# Altium footprint library 0.PCB1.PcbLib: 27 footprints (part 2 of 3)
Each footprint in its own frame and in the unit in brackets; x right, y up, seen from the top. Pads: shape width x height; smd on the part's side, far side on the other; paste and mask are expansions set on the pad; w line width, h text height; cw(c..) or ccw(c..) is an arc to the next point about the centre after c.
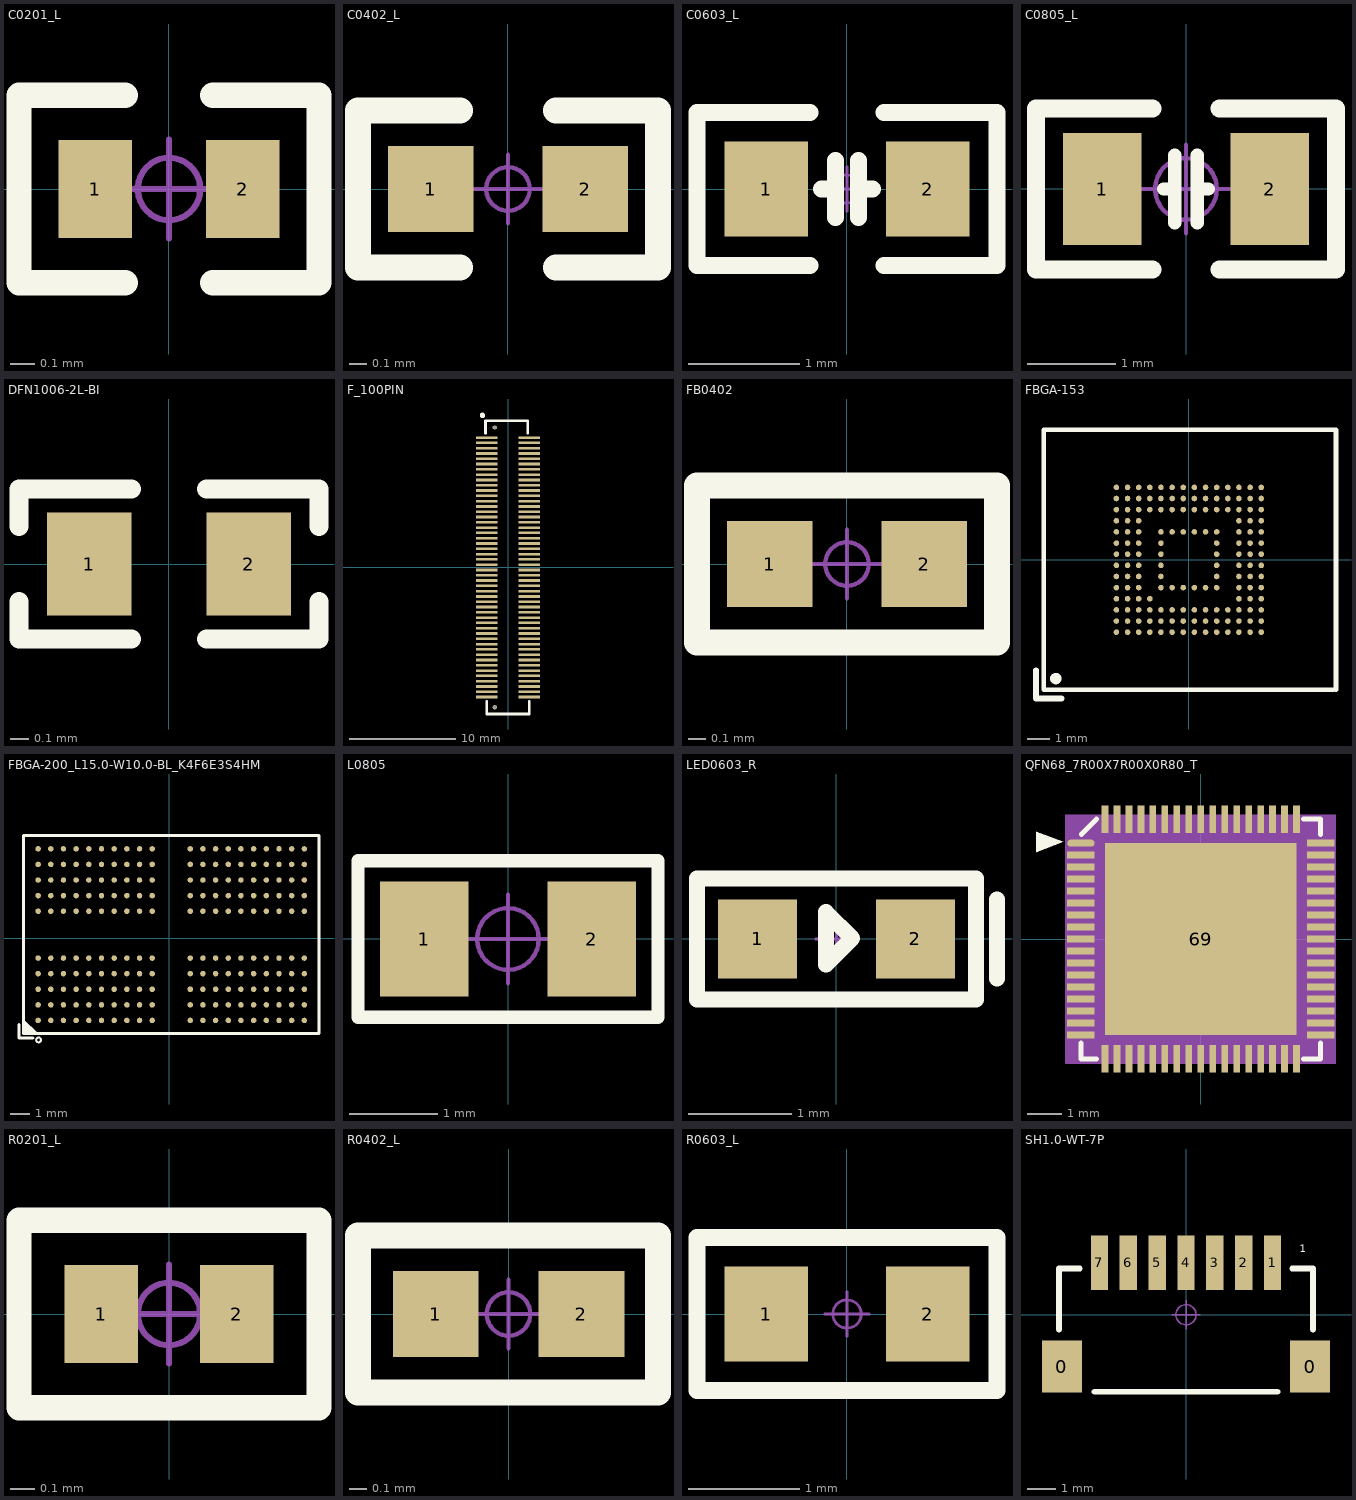
[diagram p1: the footprints below, top view; thin cyan lines are the x and y axes]

## C0201_L [mm]
pads (2):
  rect 0.3x0.4 smd: 1(-0.3,0) 2(0.3,0)
Top Overlay:
  lines w0.102: -0.178,-0.381 -0.61,-0.381 -0.61,0.381 -0.178,0.381 ; 0.178,-0.381 0.61,-0.381 0.61,0.381 0.178,0.381
Mechanical 15:
  circle w0.025: c0,0 r0.127
  lines w0.025: -0.2,0 0.2,0 ; 0,-0.2 0,0.2
3D body "C0201-2S.stp": height 0.3, standoff 0, extent -0.3,-0.15 0.3,0.15

## C0402_L [mm]
pads (2):
  rect 0.5x0.5 smd: 1(-0.45,0) 2(0.45,0)
Top Overlay:
  lines w0.152: -0.279,-0.457 -0.875,-0.457 -0.875,0.457 -0.279,0.457 ; 0.279,-0.457 0.875,-0.457 0.875,0.457 0.279,0.457
Mechanical 15:
  circle w0.025: c0,0 r0.127
  lines w0.025: -0.2,0 0.2,0 ; 0,-0.2 0,0.2
3D body "C0402-B-2S.stp": height 0.5, standoff 0, extent -0.5,-0.25 0.5,0.25

## C0603_L [mm]
pads (2):
  rect 0.75x0.85 smd: 1(-0.725,0) 2(0.725,0)
Top Overlay:
  lines w0.152: -0.33,-0.686 -1.346,-0.686 -1.346,0.686 -0.33,0.686 ; -0.229,0 -0.102,0 ; -0.102,-0.254 -0.102,0.254 ; 0.102,-0.254 0.102,0.254 ; 0.102,0 0.229,0 ; 0.33,-0.686 1.346,-0.686 1.346,0.686 0.33,0.686
Mechanical 15:
  circle w0.025: c0,0 r0.127
  lines w0.025: -0.2,0 0.2,0 ; 0,-0.2 0,0.2
3D body "C0603H08-2S.stp": height 0.8, standoff 0, extent -0.8,-0.4 0.8,0.4

## C0805_L [mil]
height 19.68
pads (2):
  rect 35x50 smd: 1(-37.4,0) 2(37.4,0)
Top Overlay:
  lines w6: -10,0 -5,0 ; -5,-15 -5,15 ; 5,-15 5,15 ; 5,0 10,0
  lines w8: -15,-36 -66.93,-36 -66.93,36 -15,36 ; 15,-36 66.93,-36 66.93,36 15,36
Mechanical 15:
  circle w1.97: c0,0 r13.78
  circle w1.97: c0,0 r13.78
  lines w1.97: -19.68,0 19.68,0 -19.68,0 ; 0,-19.68 0,19.68 0,-19.68
3D body "C0805H13-2S.stp": height 51.18, standoff -0.04, extent -39.36,-25.58 39.38,25.6

## DFN1006-2L-BI [mm]
pads (2):
  rect 0.45x0.55 smd paste+0 mask+0.051: 1(-0.425,0) 2(0.425,0)
Top Overlay:
  lines w0.102: -0.8,-0.2 -0.8,-0.4 -0.2,-0.4 ; -0.8,0.2 -0.8,0.4 -0.2,0.4 ; 0.2,-0.4 0.8,-0.4 0.8,-0.2 ; 0.2,0.4 0.8,0.4 0.8,0.2

## F_100PIN [mm]
pads (100):
  rect 2x0.25 smd: 1(-2,12.25) 2(-2,11.75) 3(-2,11.25) 4(-2,10.75) 5(-2,10.25) 6(-2,9.75) 7(-2,9.25) 8(-2,8.75) 9(-2,8.25) 10(-2,7.75) 11(-2,7.25) 12(-2,6.75) 13(-2,6.25) 14(-2,5.75) 15(-2,5.25) 16(-2,4.75) 17(-2,4.25) 18(-2,3.75) 19(-2,3.25) 20(-2,2.75) 21(-2,2.25) 22(-2,1.75) 23(-2,1.25) 24(-2,0.75) 25(-2,0.25) 26(-2,-0.25) 27(-2,-0.75) 28(-2,-1.25) 29(-2,-1.75) 30(-2,-2.25) 31(-2,-2.75) 32(-2,-3.25) 33(-2,-3.75) 34(-2,-4.25) 35(-2,-4.75) 36(-2,-5.25) 37(-2,-5.75) 38(-2,-6.25) 39(-2,-6.75) 40(-2,-7.25) 41(-2,-7.75) 42(-2,-8.25) 43(-2,-8.75) 44(-2,-9.25) 45(-2,-9.75) 46(-2,-10.25) 47(-2,-10.75) 48(-2,-11.25) 49(-2,-11.75) 50(-2,-12.25) 51(2,-12.25) 52(2,-11.75) 53(2,-11.25) 54(2,-10.75) 55(2,-10.25) 56(2,-9.75) 57(2,-9.25) 58(2,-8.75) 59(2,-8.25) 60(2,-7.75) 61(2,-7.25) 62(2,-6.75) 63(2,-6.25) 64(2,-5.75) 65(2,-5.25) 66(2,-4.75) 67(2,-4.25) 68(2,-3.75) 69(2,-3.25) 70(2,-2.75) 71(2,-2.25) 72(2,-1.75) 73(2,-1.25) 74(2,-0.75) 75(2,-0.25) 76(2,0.25) 77(2,0.75) 78(2,1.25) 79(2,1.75) 80(2,2.25) 81(2,2.75) 82(2,3.25) 83(2,3.75) 84(2,4.25) 85(2,4.75) 86(2,5.25) 87(2,5.75) 88(2,6.25) 89(2,6.75) 90(2,7.25) 91(2,7.75) 92(2,8.25) 93(2,8.75) 94(2,9.25) 95(2,9.75) 96(2,10.25) 97(2,10.75) 98(2,11.25) 99(2,11.75) 100(2,12.25)
via -1.25,-13.2 diameter 0.41 hole 0.3
via -1.25,13.2 diameter 0.41 hole 0.3
Top Overlay:
  circle w0.254: c-2.413,14.351 r0.127
  lines w0.254: -2.127,12.65 -2.127,13.85 1.873,13.85 1.873,12.65 ; -2,-12.65 -2,-13.85 2,-13.85 2,-12.65

## FB0402 [mm]
pads (2):
  rect 0.5x0.5 smd: 1(-0.45,0) 2(0.45,0)
Top Overlay:
  lines w0.152: -0.875,-0.457 0.875,-0.457 0.875,0.457 -0.875,0.457 -0.875,-0.457
Mechanical 15:
  circle w0.025: c0,0 r0.127
  lines w0.025: -0.2,0 0.2,0 ; 0,-0.2 0,0.2
3D body "FB0402-2S.stp": height 0.52, standoff 0, extent -0.51,-0.26 0.51,0.26

## FBGA-153 [mm]
pads (153):
  round 0.25 smd mask+0.051: A1(-3.25,-3.25) A2(-3.25,-2.75) A3(-3.25,-2.25) A4(-3.25,-1.75) A5(-3.25,-1.25) A6(-3.25,-0.75) A7(-3.25,-0.25) A8(-3.25,0.25) A9(-3.25,0.75) A10(-3.25,1.25) A11(-3.25,1.75) A12(-3.25,2.25) A13(-3.25,2.75) A14(-3.25,3.25) B1(-2.75,-3.25) B2(-2.75,-2.75) B3(-2.75,-2.25) B4(-2.75,-1.75) B5(-2.75,-1.25) B6(-2.75,-0.75) B7(-2.75,-0.25) B8(-2.75,0.25) B9(-2.75,0.75) B10(-2.75,1.25) B11(-2.75,1.75) B12(-2.75,2.25) B13(-2.75,2.75) B14(-2.75,3.25) C1(-2.25,-3.25) C2(-2.25,-2.75) C3(-2.25,-2.25) C4(-2.25,-1.75) C5(-2.25,-1.25) C6(-2.25,-0.75) C7(-2.25,-0.25) C8(-2.25,0.25) C9(-2.25,0.75) C10(-2.25,1.25) C11(-2.25,1.75) C12(-2.25,2.25) C13(-2.25,2.75) C14(-2.25,3.25) D1(-1.75,-3.25) D2(-1.75,-2.75) D3(-1.75,-2.25) D4(-1.75,-1.75) D12(-1.75,2.25) D13(-1.75,2.75) D14(-1.75,3.25) E1(-1.25,-3.25) E2(-1.25,-2.75) E3(-1.25,-2.25) E5(-1.25,-1.25) E6(-1.25,-0.75) E7(-1.25,-0.25) E8(-1.25,0.25) E9(-1.25,0.75) E10(-1.25,1.25) E12(-1.25,2.25) E13(-1.25,2.75) E14(-1.25,3.25) F1(-0.75,-3.25) F2(-0.75,-2.75) F3(-0.75,-2.25) F5(-0.75,-1.25) F10(-0.75,1.25) F12(-0.75,2.25) F13(-0.75,2.75) F14(-0.75,3.25) G1(-0.25,-3.25) G2(-0.25,-2.75) G3(-0.25,-2.25) G5(-0.25,-1.25) G10(-0.25,1.25) G12(-0.25,2.25) G13(-0.25,2.75) G14(-0.25,3.25) H1(0.25,-3.25) H2(0.25,-2.75) H3(0.25,-2.25) H5(0.25,-1.25) H10(0.25,1.25) H12(0.25,2.25) H13(0.25,2.75) H14(0.25,3.25) J1(0.75,-3.25) J2(0.75,-2.75) J3(0.75,-2.25) J5(0.75,-1.25) J10(0.75,1.25) J12(0.75,2.25) J13(0.75,2.75) J14(0.75,3.25) K1(1.25,-3.25) K2(1.25,-2.75) K3(1.25,-2.25) K5(1.25,-1.25) K6(1.25,-0.75) K7(1.25,-0.25) K8(1.25,0.25) K9(1.25,0.75) K10(1.25,1.25) K12(1.25,2.25) K13(1.25,2.75) K14(1.25,3.25) L1(1.75,-3.25) L2(1.75,-2.75) L3(1.75,-2.25) L12(1.75,2.25) L13(1.75,2.75) L14(1.75,3.25) M1(2.25,-3.25) M2(2.25,-2.75) M3(2.25,-2.25) M4(2.25,-1.75) M5(2.25,-1.25) M6(2.25,-0.75) M7(2.25,-0.25) M8(2.25,0.25) M9(2.25,0.75) M10(2.25,1.25) M11(2.25,1.75) M12(2.25,2.25) M13(2.25,2.75) M14(2.25,3.25) N1(2.75,-3.25) N2(2.75,-2.75) N3(2.75,-2.25) N4(2.75,-1.75) N5(2.75,-1.25) N6(2.75,-0.75) N7(2.75,-0.25) N8(2.75,0.25) N9(2.75,0.75) N10(2.75,1.25) N11(2.75,1.75) N12(2.75,2.25) N13(2.75,2.75) N14(2.75,3.25) P1(3.25,-3.25) P2(3.25,-2.75) P3(3.25,-2.25) P4(3.25,-1.75) P5(3.25,-1.25) P6(3.25,-0.75) P7(3.25,-0.25) P8(3.25,0.25) P9(3.25,0.75) P10(3.25,1.25) P11(3.25,1.75) P12(3.25,2.25) P13(3.25,2.75) P14(3.25,3.25)
Top Overlay:
  circle w0.254: c-5.969,-5.334 r0.127
  lines w0.203: -5.079,5.842 -6.5,5.842 -6.5,-5.841 6.5,-5.841 ; -5.079,5.843 6.605,5.843 6.605,-5.841
  lines w0.254: -6.858,-4.953 -6.858,-6.223 -5.715,-6.223
3D body "3D Model.STEP": height 1.15, standoff 0.05, extent -6.4,-5.75 6.6,5.75

## FBGA-200_L15.0-W10.0-BL_K4F6E3S4HM [mm]
pads (200):
  round 0.28 smd paste+0 mask+0.05: A1(-6.711,-4.214) A2(-6.711,-3.414) A3(-6.711,-2.614) A4(-6.711,-1.814) A5(-6.711,-1.014) A8(-6.711,1.386) A9(-6.711,2.186) A10(-6.711,2.986) A11(-6.711,3.786) A12(-6.711,4.586) AA1(6.289,-4.214) AA2(6.289,-3.414) AA3(6.289,-2.614) AA4(6.289,-1.814) AA5(6.289,-1.014) AA8(6.289,1.386) AA9(6.289,2.186) AA10(6.289,2.986) AA11(6.289,3.786) AA12(6.289,4.586) AB1(6.939,-4.214) AB2(6.939,-3.414) AB3(6.939,-2.614) AB4(6.939,-1.814) AB5(6.939,-1.014) AB8(6.939,1.386) AB9(6.939,2.186) AB10(6.939,2.986) AB11(6.939,3.786) AB12(6.939,4.586) B1(-6.061,-4.214) B2(-6.061,-3.414) B3(-6.061,-2.614) B4(-6.061,-1.814) B5(-6.061,-1.014) B8(-6.061,1.386) B9(-6.061,2.186) B10(-6.061,2.986) B11(-6.061,3.786) B12(-6.061,4.586) C1(-5.411,-4.214) C2(-5.411,-3.414) C3(-5.411,-2.614) C4(-5.411,-1.814) C5(-5.411,-1.014) C8(-5.411,1.386) C9(-5.411,2.186) C10(-5.411,2.986) C11(-5.411,3.786) C12(-5.411,4.586) D1(-4.761,-4.214) D2(-4.761,-3.414) D3(-4.761,-2.614) D4(-4.761,-1.814) D5(-4.761,-1.014) D8(-4.761,1.386) D9(-4.761,2.186) D10(-4.761,2.986) D11(-4.761,3.786) D12(-4.761,4.586) E1(-4.111,-4.214) E2(-4.111,-3.414) E3(-4.111,-2.614) E4(-4.111,-1.814) E5(-4.111,-1.014) E8(-4.111,1.386) E9(-4.111,2.186) E10(-4.111,2.986) E11(-4.111,3.786) E12(-4.111,4.586) F1(-3.461,-4.214) F2(-3.461,-3.414) F3(-3.461,-2.614) F4(-3.461,-1.814) F5(-3.461,-1.014) F8(-3.461,1.386) F9(-3.461,2.186) F10(-3.461,2.986) F11(-3.461,3.786) F12(-3.461,4.586) G1(-2.811,-4.214) G2(-2.811,-3.414) G3(-2.811,-2.614) G4(-2.811,-1.814) G5(-2.811,-1.014) G8(-2.811,1.386) G9(-2.811,2.186) G10(-2.811,2.986) G11(-2.811,3.786) G12(-2.811,4.586) H1(-2.161,-4.214) H2(-2.161,-3.414) H3(-2.161,-2.614) H4(-2.161,-1.814) H5(-2.161,-1.014) H8(-2.161,1.386) H9(-2.161,2.186) H10(-2.161,2.986) H11(-2.161,3.786) H12(-2.161,4.586) J1(-1.511,-4.214) J2(-1.511,-3.414) J3(-1.511,-2.614) J4(-1.511,-1.814) J5(-1.511,-1.014) J8(-1.511,1.386) J9(-1.511,2.186) J10(-1.511,2.986) J11(-1.511,3.786) J12(-1.511,4.586) K1(-0.861,-4.214) K2(-0.861,-3.414) K3(-0.861,-2.614) K4(-0.861,-1.814) K5(-0.861,-1.014) K8(-0.861,1.386) K9(-0.861,2.186) K10(-0.861,2.986) K11(-0.861,3.786) K12(-0.861,4.586) N1(1.089,-4.214) N2(1.089,-3.414) N3(1.089,-2.614) N4(1.089,-1.814) N5(1.089,-1.014) N8(1.089,1.386) N9(1.089,2.186) N10(1.089,2.986) N11(1.089,3.786) N12(1.089,4.586) P1(1.739,-4.214) P2(1.739,-3.414) P3(1.739,-2.614) P4(1.739,-1.814) P5(1.739,-1.014) P8(1.739,1.386) P9(1.739,2.186) P10(1.739,2.986) P11(1.739,3.786) P12(1.739,4.586) R1(2.389,-4.214) R2(2.389,-3.414) R3(2.389,-2.614) R4(2.389,-1.814) R5(2.389,-1.014) R8(2.389,1.386) R9(2.389,2.186) R10(2.389,2.986) R11(2.389,3.786) R12(2.389,4.586) T1(3.039,-4.214) T2(3.039,-3.414) T3(3.039,-2.614) T4(3.039,-1.814) T5(3.039,-1.014) T8(3.039,1.386) T9(3.039,2.186) T10(3.039,2.986) T11(3.039,3.786) T12(3.039,4.586) U1(3.689,-4.214) U2(3.689,-3.414) U3(3.689,-2.614) U4(3.689,-1.814) U5(3.689,-1.014) U8(3.689,1.386) U9(3.689,2.186) U10(3.689,2.986) U11(3.689,3.786) U12(3.689,4.586) V1(4.339,-4.214) V2(4.339,-3.414) V3(4.339,-2.614) V4(4.339,-1.814) V5(4.339,-1.014) V8(4.339,1.386) V9(4.339,2.186) V10(4.339,2.986) V11(4.339,3.786) V12(4.339,4.586) W1(4.989,-4.214) W2(4.989,-3.414) W3(4.989,-2.614) W4(4.989,-1.814) W5(4.989,-1.014) W8(4.989,1.386) W9(4.989,2.186) W10(4.989,2.986) W11(4.989,3.786) W12(4.989,4.586) Y1(5.639,-4.214) Y2(5.639,-3.414) Y3(5.639,-2.614) Y4(5.639,-1.814) Y5(5.639,-1.014) Y8(5.639,1.386) Y9(5.639,2.186) Y10(5.639,2.986) Y11(5.639,3.786) Y12(5.639,4.586)
Top Overlay:
  circle w0.1: c-6.686,-5.214 r0.124
  region: -6.686,-4.914 -7.486,-4.914 -7.486,-4.114
  lines w0.152: -7.69,-4.411 -7.69,-5.119 -6.982,-5.119 ; -7.462,-4.891 -7.462,5.262 7.69,5.262 7.69,-4.891 -7.462,-4.891
Mechanical 15:
  region: -6.686,-4.914 -7.486,-4.914 -7.486,-4.114

## L0805 [mm]
height 0.5
pads (2):
  rect 1x1.3 smd: 1(-0.95,0) 2(0.95,0)
Top Overlay:
  lines w0.152: -1.702,-0.889 -1.702,0.889 1.702,0.889 1.702,-0.889 -1.702,-0.889
Mechanical 15:
  circle w0.05: c0,0 r0.35
  lines w0.05: -0.5,0 0.5,0 ; 0,-0.5 0,0.5
3D body "L0805H13-2S.stp": height 1.3, standoff 0, extent -1,-0.65 1,0.65

## LED0603_R [mil]
pads (2):
  rect 30x30 smd: 1(-30,0) 2(30,0)
Top Overlay:
  lines w6: 61,-15 61,15 ; -53,-23 -53,23 53,23 53,-23 -53,-23 ; -4,-9.75 6,0.25 -4,10.25 -4,-9.75
Mechanical 15:
  circle w1: c0,0 r5
  lines w1: -7.88,0 7.87,0 ; 0,-7.88 0,7.87
3D body "LED_0603-R.STEP": height 18.36, standoff -0.04, extent -31.49,-15.78 31.5,15.8
3D body "LED 0603玻璃罩.": height 0, standoff 0, extent 0,0 0,0

## QFN68_7R00X7R00X0R80_T [mil]
pads (69):
  oval 31.5x7.87 smd: 1(-137.8,110.24)
  rect 31.5x7.87 smd: 2(-137.8,96.46) 3(-137.8,82.68) 4(-137.8,68.9) 5(-137.8,55.12) 6(-137.8,41.34) 7(-137.8,27.56) 8(-137.8,13.78) 9(-137.8,0) 10(-137.8,-13.78) 11(-137.8,-27.56) 12(-137.8,-41.34) 13(-137.8,-55.12) 14(-137.8,-68.9) 15(-137.8,-82.68) 16(-137.8,-96.46) 17(-137.8,-110.24) 35(137.8,-110.24) 36(137.8,-96.46) 37(137.8,-82.68) 38(137.8,-68.9) 39(137.8,-55.12) 40(137.8,-41.34) 41(137.8,-27.56) 42(137.8,-13.78) 43(137.8,0) 44(137.8,13.78) 45(137.8,27.56) 46(137.8,41.34) 47(137.8,55.12) 48(137.8,68.9) 49(137.8,82.68) 50(137.8,96.46) 51(137.8,110.24)
  rect 7.87x31.5 smd: 18(-110.24,-137.8) 19(-96.46,-137.8) 20(-82.68,-137.8) 21(-68.9,-137.8) 22(-55.12,-137.8) 23(-41.34,-137.8) 24(-27.56,-137.8) 25(-13.78,-137.8) 26(0,-137.8) 27(13.78,-137.8) 28(27.56,-137.8) 29(41.34,-137.8) 30(55.12,-137.8) 31(68.9,-137.8) 32(82.68,-137.8) 33(96.46,-137.8) 34(110.24,-137.8) 52(110.24,137.8) 53(96.46,137.8) 54(82.68,137.8) 55(68.9,137.8) 56(55.12,137.8) 57(41.34,137.8) 58(27.56,137.8) 59(13.78,137.8) 60(0,137.8) 61(-13.78,137.8) 62(-27.56,137.8) 63(-41.34,137.8) 64(-55.12,137.8) 65(-68.9,137.8) 66(-82.68,137.8) 67(-96.46,137.8) 68(-110.24,137.8)
  rect 220.47x220.47 smd: 69(0,0)
Top Overlay:
  dashed: -189.46,123.59 -189.46,99.96 -157.96,111.77
  lines w5.91: -137.8,-119.92 -137.8,-137.8 -119.73,-137.8 ; -137.02,120.51 -119.73,137.8 ; 118.2,-137.8 137.8,-137.8 137.8,-119.92 ; 118.2,137.8 137.8,137.8 137.8,120.51
Top 3D Body:
  region: -155.51,-142.72 155.51,-142.72 155.51,142.72 -155.51,142.72
Mechanical 18:
  text "4" at -133.8,68.9 h7
  text "2" at -133.8,96.46 h7
  text "3" at -133.8,82.68 h7
  text "69" at 8,0 h7
  text "49" at 145.8,82.68 h7
  text "40" at 145.8,-41.34 h7
  text "61" at -5.78,137.8 h7
  text "37" at 145.8,-82.68 h7
  text "67" at -88.46,137.8 h7
  text "39" at 145.8,-55.12 h7
  text "32" at 90.68,-137.8 h7
  text "31" at 76.9,-137.8 h7
  text "45" at 145.8,27.56 h7
  text "19" at -88.46,-137.8 h7
  text "29" at 49.34,-137.8 h7
  text "50" at 145.8,96.46 h7
  text "51" at 145.8,110.24 h7
  text "46" at 145.8,41.34 h7
  text "68" at -102.24,137.8 h7
  text "63" at -33.34,137.8 h7
  text "6" at -133.8,41.34 h7
  text "13" at -129.8,-55.12 h7
  text "9" at -133.8,0 h7
  text "26" at 8,-137.8 h7
  text "42" at 145.8,-13.78 h7
  text "30" at 63.12,-137.8 h7
  text "23" at -33.34,-137.8 h7
  text "55" at 76.9,137.8 h7
  text "35" at 145.8,-110.24 h7
  text "36" at 145.8,-96.46 h7
  text "5" at -133.8,55.12 h7
  text "25" at -5.78,-137.8 h7
  text "41" at 145.8,-27.56 h7
  text "66" at -74.68,137.8 h7
  text "59" at 21.78,137.8 h7
  text "20" at -74.68,-137.8 h7
  text "60" at 8,137.8 h7
  text "58" at 35.56,137.8 h7
  text "65" at -60.9,137.8 h7
  text "14" at -129.8,-68.9 h7
  text "12" at -129.8,-41.34 h7
  text "10" at -129.8,-13.78 h7
  text "8" at -133.8,13.78 h7
  text "11" at -129.8,-27.56 h7
  text "16" at -129.8,-96.46 h7
  text "18" at -102.24,-137.8 h7
  text "62" at -19.56,137.8 h7
  text "15" at -129.8,-82.68 h7
  text "17" at -129.8,-110.24 h7
  text "47" at 145.8,55.12 h7
  text "22" at -47.12,-137.8 h7
  text "21" at -60.9,-137.8 h7
  text "27" at 21.78,-137.8 h7
  text "28" at 35.56,-137.8 h7
  text "34" at 118.24,-137.8 h7
  text "33" at 104.46,-137.8 h7
  text "44" at 145.8,13.78 h7
  text "43" at 145.8,0 h7
  text "7" at -133.8,27.56 h7
  text "1" at -133.8,110.24 h7
  text "64" at -47.12,137.8 h7
  text "52" at 118.24,137.8 h7
  text "53" at 104.46,137.8 h7
  text "54" at 90.68,137.8 h7
  text "57" at 49.34,137.8 h7
  text "38" at 145.8,-68.9 h7
  text "48" at 145.8,68.9 h7
  text "24" at -19.56,-137.8 h7
  text "56" at 63.12,137.8 h7
Top Assembly:
  lines w1: -155.51,-142.72 -155.51,142.72 155.51,142.72 155.51,-142.72 -155.51,-142.72
  text ".Designator" at -120,-20 h7
  text "RK806-1" at 28,5 h7
3D body: height 150, standoff 0, extent -155.51,-142.72 155.51,142.72

## R0201_L [mm]
pads (2):
  rect 0.3x0.4 smd: 1(-0.275,0) 2(0.275,0)
Top Overlay:
  lines w0.102: -0.61,-0.381 -0.61,0.381 0.61,0.381 0.61,-0.381 -0.61,-0.381
Mechanical 15:
  circle w0.025: c0,0 r0.127
  lines w0.025: -0.2,0 0.2,0 ; 0,-0.2 0,0.2
3D body "R0201.STEP": height 0.23, standoff 0, extent -0.3,-0.15 0.3,0.15

## R0402_L [mm]
pads (2):
  rect 0.5x0.5 smd: 1(-0.425,0) 2(0.425,0)
Top Overlay:
  lines w0.152: -0.878,-0.457 -0.878,0.457 0.872,0.457 0.872,-0.457 -0.878,-0.457
Mechanical 15:
  circle w0.025: c0,0 r0.127
  lines w0.025: -0.2,0 0.2,0 ; 0,-0.2 0,0.2
3D body "R0402.STEP": height 0.3, standoff 0, extent -0.5,-0.25 0.5,0.25

## R0603_L [mm]
pads (2):
  rect 0.75x0.85 smd: 1(-0.725,0) 2(0.725,0)
Top Overlay:
  lines w0.152: -1.346,-0.686 1.346,-0.686 1.346,0.686 -1.346,0.686 -1.346,-0.686
Mechanical 15:
  circle w0.025: c0,0 r0.127
  lines w0.025: -0.2,0 0.2,0 ; 0,-0.2 0,0.2
3D body "R0603-2.stp": height 0.4, standoff 0, extent -0.8,-0.4 0.8,0.4

## SH1.0-WT-7P [mm]
pads (9):
  rect 1.4x1.8 smd: 0(-4.3,-1.8) 0(4.3,-1.8)
  rect 0.6x1.9 smd: 1(3,1.8) 2(2,1.8) 3(1,1.8) 4(0,1.8) 5(-1,1.8) 6(-2,1.8) 7(-3,1.8)
Top Overlay:
  lines w0.2: -4.4,-0.508 -4.4,1.6 -3.683,1.6 ; -3.175,-2.667 3.175,-2.667 ; 3.683,1.6 4.3,1.6 4.4,1.6 4.4,1.5 4.4,-0.508
  text "1" at 3.937,2.159 h0.25
Mechanical 15:
  circle w0.05: c0,0 r0.35
  lines w0.05: -0.5,0 0.5,0 ; 0,-0.5 0,0.5
3D body "LED 0603玻璃罩.": height 0, standoff 0, extent 0,0 0,0
3D body "SH1.0-WT-7P.STEP": height 2.9, standoff 0, extent -4.508,-2.599 4.492,2.351